# Altium footprint library Topping_L50.PcbLib: 20 footprints (part 2 of 2)
Each footprint in its own frame and in the unit in brackets; x right, y up, seen from the top. Pads: shape width x height; smd on the part's side, far side on the other; paste and mask are expansions set on the pad; w line width, h text height; cw(c..) or ccw(c..) is an arc to the next point about the centre after c.
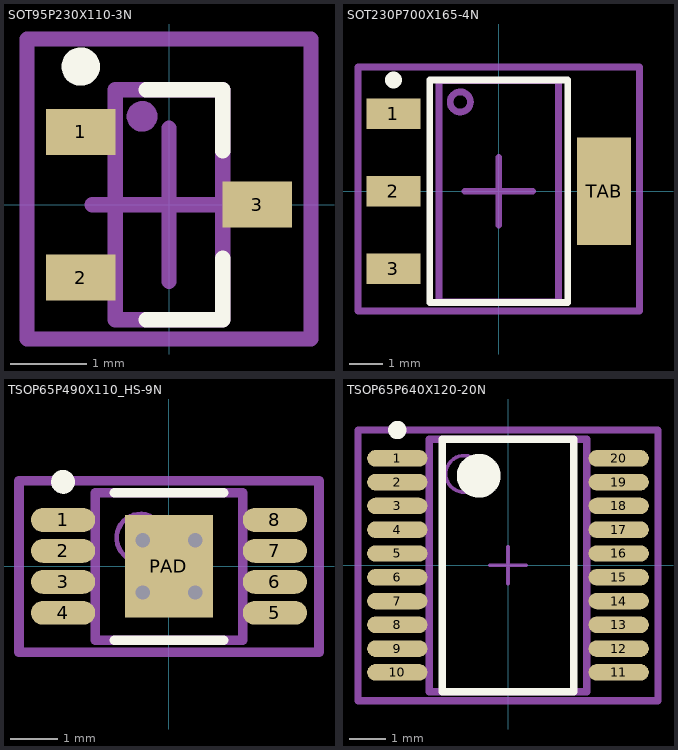
[diagram p1: the footprints below, top view; thin cyan lines are the x and y axes]

## SOT95P230X110-3N [mm]
pads (3):
  rect 0.9x0.6 smd: 1(-1.15,0.95) 2(-1.15,-0.95) 3(1.15,0)
Top Overlay:
  circle w0.25: c-1.15,1.8 r0.125
  lines w0.2: -0.3,-1.5 0.7,-1.5 0.7,-0.7 ; -0.3,1.5 0.7,1.5 0.7,0.7
Designator:
  text ".Designator" at -0.333,4.998 h1
Assembly:
  circle w0.2: c-0.351,1.152 r0.1
  lines w0.2: -0.7,-1.5 0.7,-1.5 0.7,1.5 -0.7,1.5 -0.7,-1.5
Courtyard:
  lines w0.2: -1.85,-1.75 1.85,-1.75 1.85,2.159 -1.85,2.159 -1.85,-1.75
Component Center:
  lines w0.2: -1,0 1,0 ; 0,-1 0,1
3D body "mmbt3904.stp": height 1.08, standoff 0, extent -1.169,-1.461 1.171,1.459

## SOT230P700X165-4N [mm]
pads (4):
  rect 1.6x0.9 smd: 1(-3.125,2.3) 2(-3.125,0) 3(-3.125,-2.3)
  rect 1.6x3.2 smd: TAB(3.125,0)
Top Overlay:
  circle w0.25: c-3.125,3.3 r0.125
  lines w0.2: -2.05,-3.3 -2.05,3.3 2.05,3.3 2.05,-3.3 -2.05,-3.3
Designator:
  text ".Designator" at -0.833,12.496 h2.5
Assembly:
  circle w0.2: c-1.141,2.648 r0.3
  lines w0.2: -1.775,-3.275 -1.775,3.275 1.775,3.275 1.775,-3.275 -1.775,-3.275
Courtyard:
  lines w0.2: -4.175,-3.55 -4.175,3.683 4.175,3.683 4.175,-3.55 -4.175,-3.55
Component Center:
  lines w0.2: -1,0 1,0 ; 0,-1 0,1
3D body "User Library-SOT-223-1.step": height 1.64, standoff -0.01, extent -3.5,-3.25 3.5,3.25

## TSOP65P490X110_HS-9N [mm] "TSOP, 8-Leads, Body 3,00x3,00mm, Pitch 0,65mm, Thermal Pad 2,15x1,85mm, IPC Medium Density"
height 1.1
pads (9):
  oval 1.35x0.5 smd: 1(-2.225,0.975) 2(-2.225,0.325) 3(-2.225,-0.325) 4(-2.225,-0.975) 5(2.225,-0.975) 6(2.225,-0.325) 7(2.225,0.325) 8(2.225,0.975)
  rect 1.85x2.15 smd: PAD(0,0)
via 0.55,-0.55 diameter 0.7 hole 0.3
via -0.55,-0.55 diameter 0.7 hole 0.3
via 0.55,0.55 diameter 0.7 hole 0.3
via -0.55,0.55 diameter 0.7 hole 0.3
Top Overlay:
  circle w0.25: c-2.225,1.775 r0.125
  lines w0.2: -1.15,-1.55 1.15,-1.55 ; -1.15,1.55 1.15,1.55
Designator:
  text ".Designator" at -4.998,-0.333 h1
Assembly:
  circle w0.1: c-0.6,0.6 r0.5
  lines w0.2: -1.55,-1.55 1.55,-1.55 1.55,1.55 -1.55,1.55 -1.55,-1.55
Courtyard:
  lines w0.2: -3.15,-1.8 3.15,-1.8 3.15,1.8 -3.15,1.8 -3.15,-1.8
Component Center:
  lines w0.1: -0.5,0 0.5,0 ; 0,-0.5 0,0.5
3D body "User Library-VSSOP8 3x3 e0_65-1.step": height 1.1, standoff 0, extent -2.5,-1.5 2.5,1.5

## TSOP65P640X120-20N [mm] "TSOP, 20-Leads, Body 6,90x4,40mm, Pitch 0,65mm, IPC Medium Density"
height 1.2
pads (20):
  oval 1.65x0.45 smd: 1(-3.025,2.925) 2(-3.025,2.275) 3(-3.025,1.625) 4(-3.025,0.975) 5(-3.025,0.325) 6(-3.025,-0.325) 7(-3.025,-0.975) 8(-3.025,-1.625) 9(-3.025,-2.275) 10(-3.025,-2.925) 11(3.025,-2.925) 12(3.025,-2.275) 13(3.025,-1.625) 14(3.025,-0.975) 15(3.025,-0.325) 16(3.025,0.325) 17(3.025,0.975) 18(3.025,1.625) 19(3.025,2.275) 20(3.025,2.925)
Top Overlay:
  circle w0.25: c-3.025,3.7 r0.125
  circle w0.6: c-0.8,2.45 r0.3
  lines w0.2: -1.8,-3.45 -1.8,3.45 1.8,3.45 1.8,-3.45 -1.8,-3.45
Designator:
  text ".Designator" at -4.998,-0.333 h1
Assembly:
  circle w0.1: c-1.2,2.5 r0.5
  lines w0.2: -2.15,-3.45 -2.15,3.45 2.15,3.45 2.15,-3.45 -2.15,-3.45
Courtyard:
  lines w0.2: -4.1,-3.7 -4.1,3.7 4.1,3.7 4.1,-3.7 -4.1,-3.7
Component Center:
  lines w0.1: -0.5,0 0.5,0 ; 0,-0.5 0,0.5
3D body: height 1.2, standoff 0.1, extent -2.15,-3.45 2.15,3.45